# Altium footprint library PcbLib1.PcbLib: 4 footprints
Each footprint in its own frame and in the unit in brackets; x right, y up, seen from the top. Pads: shape width x height; smd on the part's side, far side on the other; paste and mask are expansions set on the pad; w line width, h text height; cw(c..) or ccw(c..) is an arc to the next point about the centre after c.
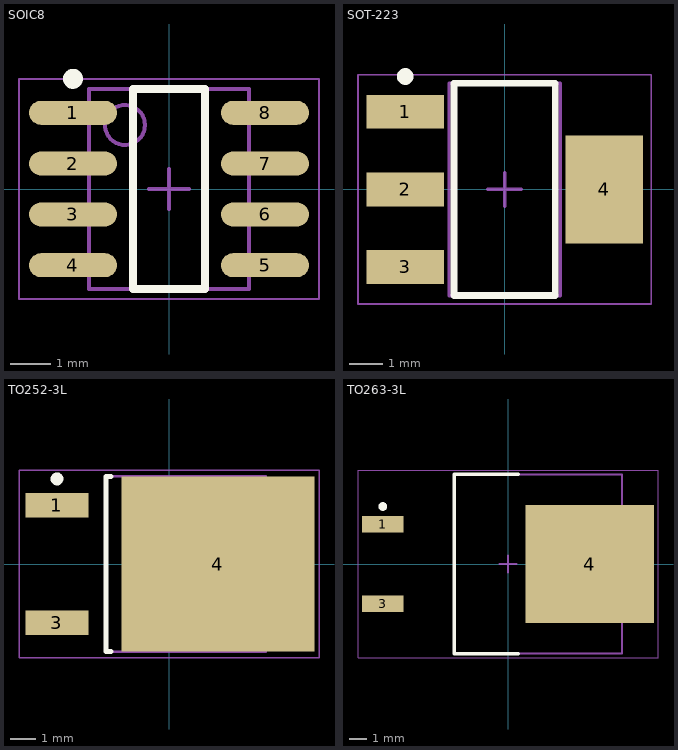
[diagram p0: the footprints below, top view; thin cyan lines are the x and y axes]

## SOIC8 [mm] "SOIC, 8-Leads, Body 4,90x3,90mm, Pitch 1,27mm, IPC Medium Density"
height 1.5
pads (8):
  oval 2.2x0.6 smd: 1(-2.4,1.905) 2(-2.4,0.635) 3(-2.4,-0.635) 4(-2.4,-1.905) 5(2.4,-1.905) 6(2.4,-0.635) 7(2.4,0.635) 8(2.4,1.905)
Top Overlay:
  circle w0.25: c-2.4,2.755 r0.125
  lines w0.2: -0.9,-2.5 0.9,-2.5 0.9,2.5 -0.9,2.5 -0.9,-2.5
Mechanical 13:
  circle w0.1: c-1.1,1.6 r0.5
  lines w0.1: -2,-2.5 2,-2.5 2,2.5 -2,2.5 -2,-2.5
Mechanical 15:
  lines w0.05: -3.75,-2.75 3.75,-2.75 3.75,2.75 -3.75,2.75 -3.75,-2.75
  lines w0.1: -0.5,0 0.5,0 ; 0,-0.5 0,0.5
3D body: height 1.5, standoff 0.2, extent -2,-2.5 2,2.5

## SOT-223 [mm] "SOT223, 4-Leads, Body 6,50x7,00mm (avg), Pitch 2,30mm, IPC Medium Density"
height 1.8
pads (4):
  rect 2.3x1 smd: 1(-2.95,2.3) 2(-2.95,0) 3(-2.95,-2.3)
  rect 2.3x3.2 smd: 4(2.95,0)
Top Overlay:
  circle w0.25: c-2.95,3.35 r0.125
  lines w0.2: -1.5,-3.15 -1.5,3.15 1.5,3.15 1.5,-3.15 -1.5,-3.15
Mechanical 13:
  lines w0.1: -1.65,-3.15 -1.65,3.15 1.65,3.15 1.65,-3.15 -1.65,-3.15
Mechanical 15:
  lines w0.05: -4.35,-3.4 -4.35,3.4 4.35,3.4 4.35,-3.4 -4.35,-3.4
  lines w0.1: -0.5,0 0.5,0 ; 0,-0.5 0,0.5
3D body: height 1.8, standoff 0.02, extent -1.65,-3.15 1.65,3.15

## TO252-3L [mm] "D-PAK, 3-Pads, Body 6,20x6,76mm (max), IPC Medium Density"
height 2.4
pads (3):
  rect 2.45x0.95 smd: 1(-4.35,2.28) 3(-4.35,-2.28)
  rect 7.5x6.8 smd: 4(1.9,0)
Top Overlay:
  circle w0.25: c-4.35,3.305 r0.125
  lines w0.2: -2.25,-3.4 -2.45,-3.4 -2.45,3.4 -2.25,3.4
Mechanical 13:
  lines w0.1: -2.45,-3.4 3.75,-3.4 3.75,3.4 -2.45,3.4 -2.45,-3.4
Mechanical 15:
  lines w0.05: -5.825,-3.65 5.825,-3.65 5.825,3.65 -5.825,3.65 -5.825,-3.65
  lines w0.1: -0.5,0 0.5,0 ; 0,-0.5 0,0.5
3D body: height 2.4, standoff 0, extent -2.45,-3.4 3.75,3.4

## TO263-3L [mm] "D2-PAK, 3-Pads, Body 7,93x8,50mm (max), IPC Medium Density"
height 4.83
pads (3):
  rect 2.4x0.95 smd: 1(-7.2,2.28) 3(-7.2,-2.28)
  rect 7.4x6.8 smd: 4(4.7,0)
Top Overlay:
  circle w0.25: c-7.2,3.305 r0.125
  lines w0.2: 0.6,-5.15 -3.1,-5.15 -3.1,5.15 0.6,5.15
Mechanical 13:
  lines w0.1: -3.1,-5.15 -3.1,5.15 6.55,5.15 6.55,-5.15 -3.1,-5.15
Mechanical 15:
  lines w0.05: -8.625,-5.4 -8.625,5.4 8.625,5.4 8.625,-5.4 -8.625,-5.4
  lines w0.1: -0.5,0 0.5,0 ; 0,-0.5 0,0.5
3D body: height 4.83, standoff 0, extent -3.1,-5.15 6.55,5.15